# Altium schematic symbol library cap 10uF.SchLib: 1 symbol
Pins are listed as number, name and electrical type; pins without a type are passive.

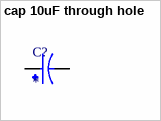
[diagram p0: symbol cap 10uF through hole]

## cap 10uF through hole
designator C?
MF: Panasonic; MP: ECA-1CM100; Check_prices: https://www.snapeda.com/parts/ECA-1CM100/Panasonic/view-part/235834/?ref=eda; Value: *; Purchase-URL: https://pricing.snapeda.com/search/part/ECA-1CM100/?ref=eda; Package: RADIAL-2 Panasonic; Price: None; Availability: In Stock; SnapEDA_Link: https://www.snapeda.com/parts/ECA-1CM100/Panasonic/view-part/235834/?ref=snap
footprint CAPPRD200W50D500H1100
pins: N, P